# Altium footprint library OL_0807.PcbLib: 1 footprints
Each footprint in its own frame and in the unit in brackets; x right, y up, seen from the top. Pads: shape width x height; smd on the part's side, far side on the other; paste and mask are expansions set on the pad; w line width, h text height; cw(c..) or ccw(c..) is an arc to the next point about the centre after c.
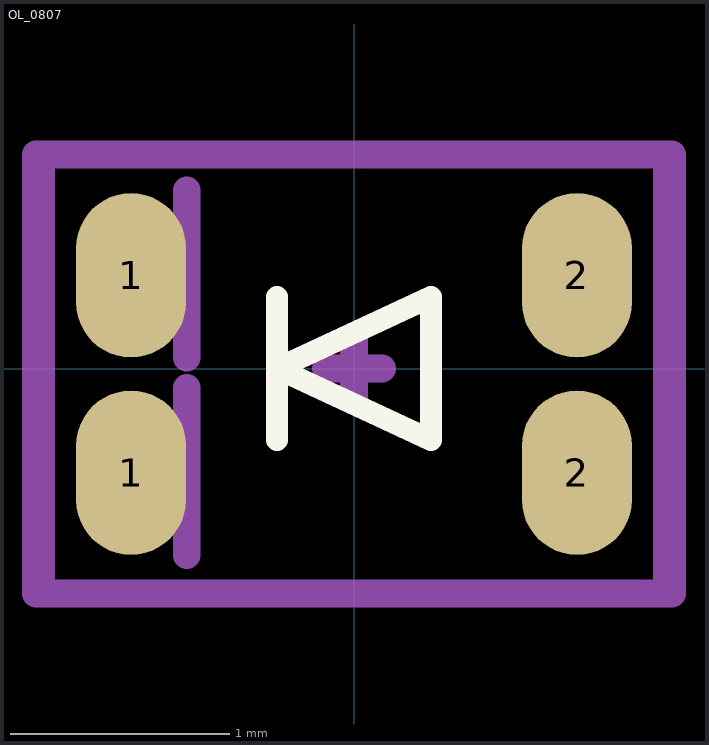
[diagram p0: the footprint, top view; thin cyan lines are the x and y axes]

## OL_0807 [mm]
pads (4):
  oval 0.5x0.75 smd mask+0.05: 1(-1.016,-0.475) 1(-1.016,0.425) 2(1.016,-0.475) 2(1.016,0.425)
Top Overlay:
  lines w0.1: -0.35,-0.325 -0.35,0 ; -0.35,0.325 -0.35,0 ; -0.35,0 0.35,0.325 0.35,0 0.35,-0.325 -0.35,0
Top Assembly:
  lines w0.127: -1.45,-0.193 -1.45,0.975 1.45,0.975 1.45,-0.193 ; -1.45,0.157 -1.45,-1.025 1.45,-1.025 1.45,0.157 ; -0.762,-0.849 -0.762,-0.087 ; -0.762,0.051 -0.762,0.813
Top Courtyard:
  lines w0.127: -0.127,0 0.127,0 ; 0,-0.127 0,0.127 ; -1.425,-1.025 1.425,-1.025 1.425,0.975 -1.425,0.975 -1.425,-1.025
3D body "User Library-LED SMD0805.step": height 0.85, standoff 0.01, extent -1.022,-0.928 1.041,-0.022
3D body "User Library-LED SMD0805.step": height 0.85, standoff 0.01, extent -1.022,-0.028 1.041,0.878